# EAGLE library part LT3652 (library crw)
2-Channel, 12-Bit ADC with I2C-Compatible Interface 10-Lead MSOP Source: http://www.analog.com/UploadedFiles/Data_Sheets/224965274AD7992_0.pdf
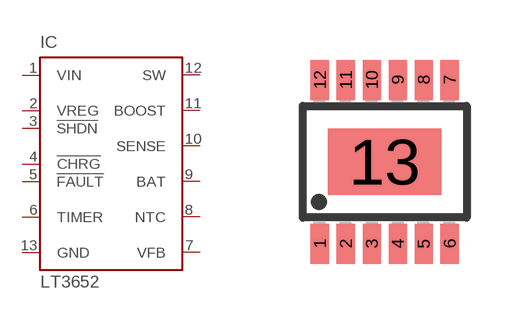
[diagram p3: symbol with the pads of MSOP12-MSE; footprint MSOP12-MSE]

Designator prefix IC

## LT3652 (MPN: AD7992BRMZ-0; OC_FARNELL: 1078311; OC_NEWARK: 31M4422)  [MSOP12-MSE]
1  VIN  pwr
2  VREG  in
3  !SHDN  in
4  !CHRG  pwr
5  !FAULT  pwr
6  TIMER  pwr
7  VFB
8  NTC
9  BAT  in
10  SENSE  in
11  BOOST  out
12  SW  in
13  GND  pwr

## Footprint MSOP12-MSE (pad centres in mm)
10-Lead Mini Small Outline Package [MSOP] (RM-10) Source: http://www.analog.com/UploadedFiles/Data_Sheets/35641221898805SSM2167_b.pdf COMPLIANT TO JEDEC STANDARDS MO-187BA
smd 0.45 x 1: 1 -1.625,-2.05; 2 -0.975,-2.05; 3 -0.325,-2.05; 4 0.325,-2.05; 5 0.975,-2.05; 6 1.625,-2.05; 7 1.625,2.05; 8 0.975,2.05; 9 0.325,2.05; 10 -0.325,2.05; 11 -0.975,2.05; 12 -1.625,2.05
smd 2.845 x 1.651: 13 0,0